# EAGLE library part MAX38641 (library chips)
Tiny 1.8V–5.5V Input, 330nA IQ, 700mA nanoPower Buck Converter
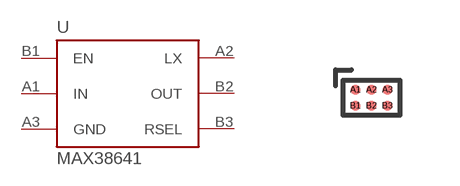
[diagram p111: symbol with the pads of 6-WLP-1.42/0.89; footprint 6-WLP-1.42/0.89]

Designator prefix U

## MAX38641AENT+ (DIGIKEY: MAX38641AENT+-ND; MANUFACTURER: MAXIM; MPN: MAX38641AENT+)  [6-WLP-1.42/0.89]
A1  IN
A2  LX
A3  GND
B1  EN
B2  OUT
B3  RSEL

## Footprint 6-WLP-1.42/0.89 (pad centres in mm)
smd 0.24 x 0.24: A1 -0.4,0.2; A2 0,0.2; A3 0.4,0.2; B1 -0.4,-0.2; B2 0,-0.2; B3 0.4,-0.2